# EAGLE library part G6K-2F-RF-V_DC12 (library G6K-2F-RF-V_DC12)
G6K-2F-RF-V DC12 Source: Datasheet <https://componentsearchengine.com/Datasheets/1/G6K-2F-RF-V DC12.pdf>
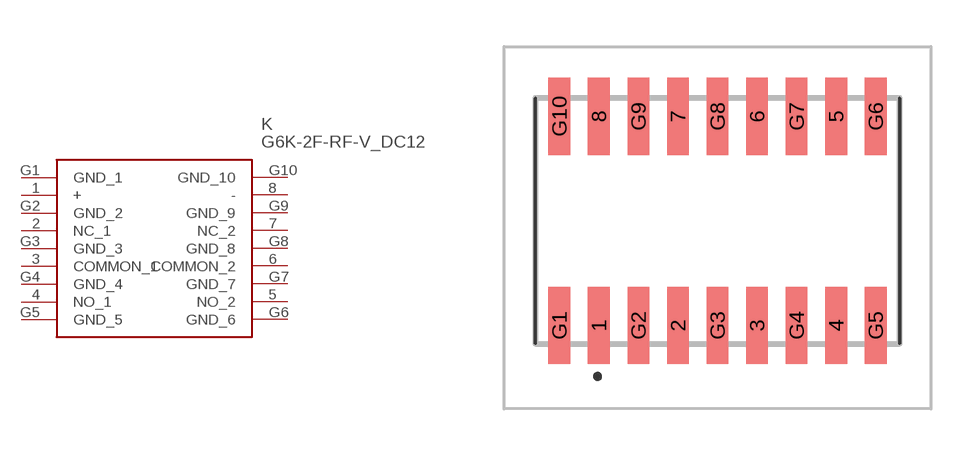
[diagram p0: symbol with the pads of G6K2FRFVDC12; footprint G6K2FRFVDC12]

Designator prefix K

## G6K-2F-RF-V_DC12 (Arrow_Part_Number: G6K-2F-RF-V DC12; Arrow_Price-Stock: https://www.arrow.com/en/products/g6k-2f-rf-vdc12/omron; Description: G6K-2F-RF-V DC12; Height: 7.2mm; Manufacturer_Name: Omron Electronics; Manufacturer_Part_Number: G6K-2F-RF-V DC12; Mouser_Part_Number: 653-G6K-2F-RF-VDC12; Mouser_Price-Stock: https://www.mouser.co.uk/ProductDetail/Omron-Electronics/G6K-2F-RF-V-DC12?qs=u4fy%2FsgLU9MTgGaF%2FyL1qA%3D%3D)  [G6K2FRFVDC12]
1  +
2  NC_1
3  COMMON_1
4  NO_1
5  NO_2
6  COMMON_2
7  NC_2
8  -
G1  GND_1
G2  GND_2
G3  GND_3
G4  GND_4
G5  GND_5
G6  GND_6
G7  GND_7
G8  GND_8
G9  GND_9
G10  GND_10

## Footprint G6K2FRFVDC12 (pad centres in mm)
G6K-2F-RF-V DC12-3
smd 0.7 x 2.48: 1 -3.81,-3.36; 2 -1.27,-3.36; 3 1.27,-3.36; 4 3.81,-3.36; 5 3.81,3.36; 6 1.27,3.36; 7 -1.27,3.36; 8 -3.81,3.36; G1 -5.08,-3.36; G2 -2.54,-3.36; G3 0,-3.36; G4 2.54,-3.36; G5 5.08,-3.36; G6 5.08,3.36; G7 2.54,3.36; G8 0,3.36; G9 -2.54,3.36; G10 -5.08,3.36